# Altium schematic symbol library STM32F071CBY6TR.SchLib: 1 symbol
Pins are listed as number, name and electrical type; pins without a type are passive.

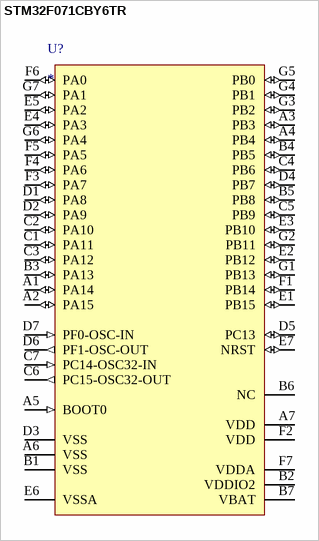
[diagram p0: symbol STM32F071CBY6TR]

## STM32F071CBY6TR
designator U?
ARM-based 32-bit MCU, up to 128 KB Flash, 12 timers,  ADC, DAC & communication interfaces, 2.0 - 3.6 V
pins: A1 PA14 (io), A2 PA15 (io), A3 PB3 (io), A4 PB4 (io), A5 BOOT0 (in), A6 VSS (power), A7 VDD (power), B1 VSS (power), B2 VDDIO2 (power), B3 PA13 (io), B4 PB5 (io), B5 PB8 (io), B6 NC, B7 VBAT (power), C1 PA11 (io), C2 PA10 (io), C3 PA12 (io), C4 PB6 (io), C5 PB9 (io), C6 PC15-OSC32-OUT (out), C7 PC14-OSC32-IN (in), D1 PA8 (io), D2 PA9 (io), D3 VSS (power), D4 PB7 (io), D5 PC13 (io), D6 PF1-OSC-OUT (out), D7 PF0-OSC-IN (in), E1 PB15 (io), E2 PB12 (io), E3 PB10 (io), E4 PA3 (io), E5 PA2 (io), E6 VSSA (power), E7 NRST (io), F1 PB14 (io), F2 VDD (power), F3 PA7 (io), F4 PA6 (io), F5 PA5 (io), F6 PA0 (io), F7 VDDA (power), G1 PB13 (io), G2 PB11 (io), G3 PB2 (io), G4 PB1 (io), G5 PB0 (io), G6 PA4 (io), G7 PA1 (io)